# Altium footprint library PcbLib2.PcbLib: 1 footprints
Each footprint in its own frame and in the unit in brackets; x right, y up, seen from the top. Pads: shape width x height; smd on the part's side, far side on the other; paste and mask are expansions set on the pad; w line width, h text height; cw(c..) or ccw(c..) is an arc to the next point about the centre after c.
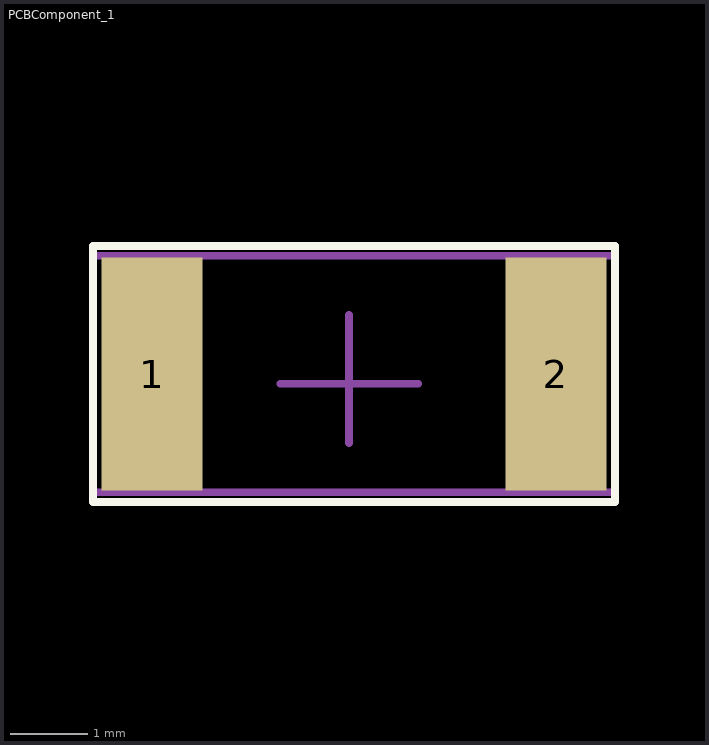
[diagram p0: the footprint, top view; thin cyan lines are the x and y axes]

## PCBComponent_1 [mm]
pads (2):
  rect 1.3x3 smd: 1(-794.639,-858.647) 2(-789.432,-858.647)
Top Overlay:
  lines w0.1: -795.401,-860.298 -795.401,-856.996 -788.67,-856.996 -788.67,-860.298 -795.401,-860.298
Mechanical 13:
  lines w0.1: -795.401,-860.171 -795.401,-857.123 -788.67,-857.123 -788.67,-860.171 -795.401,-860.171
Mechanical 15:
  lines w0.1: -792.988,-858.774 -791.21,-858.774 ; -792.099,-859.536 -792.099,-857.885 ; -795.401,-860.171 -795.401,-856.996 -788.67,-856.996 -788.67,-860.171 -795.401,-860.171